# Altium schematic symbol library SE555QS-13.Schlib: 1 symbol
Pins are listed as number, name and electrical type; pins without a type are passive.

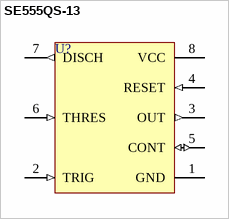
[diagram p0: symbol SE555QS-13]

## SE555QS-13
designator U?
precision timing circuits capable of producing accurate time delays or oscillation
pins: 1 GND (power), 2 TRIG (in), 3 OUT (out), 4 RESET (in), 5 CONT (io), 6 THRES (in), 7 DISCH (out), 8 VCC (power)